# Altium footprint library SnapEDApcb.PcbLib: 1 footprints
Each footprint in its own frame and in the unit in brackets; x right, y up, seen from the top. Pads: shape width x height; smd on the part's side, far side on the other; paste and mask are expansions set on the pad; w line width, h text height; cw(c..) or ccw(c..) is an arc to the next point about the centre after c.
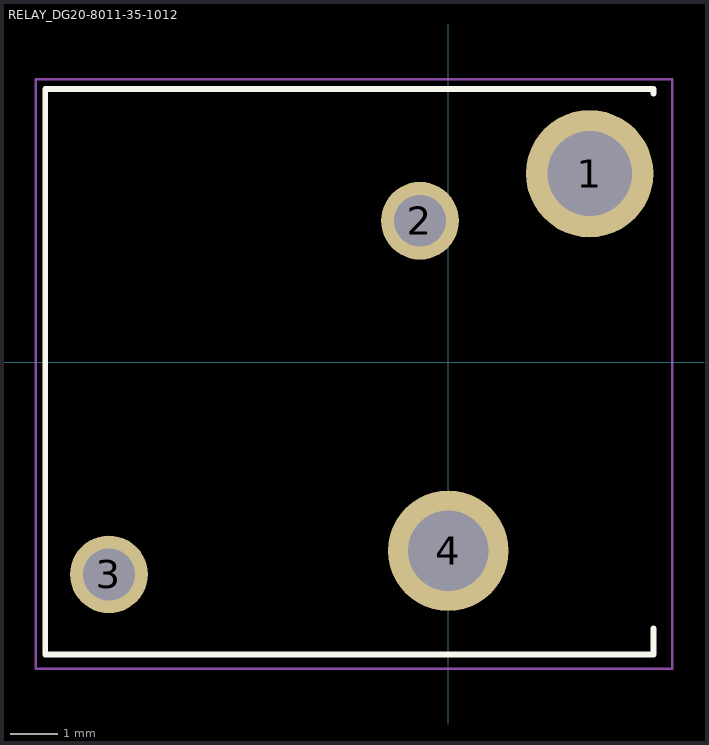
[diagram p0: the footprint, top view; thin cyan lines are the x and y axes]

## RELAY_DG20-8011-35-1012 [mm]
pads (4):
  round 2.7 hole 1.8: 1(3,4)
  round 1.65 hole 1.1: 2(-0.6,3) 3(-7.2,-4.5)
  round 2.55 hole 1.7: 4(0,-4)
Top Overlay:
  lines w0.127: 4.35,-5.65 4.35,-6.2 -8.55,-6.2 -8.55,5.8 4.35,5.8 4.35,5.7
Mechanical 15:
  lines w0.05: -8.75,-6.5 4.75,-6.5 4.75,6 -8.75,6 -8.75,-6.5
3D body "1393280-6.stp": height 9.91, standoff -2.79, extent -8.532,-6.254 4.468,5.746